# Altium footprint library Liquid Boost.PcbLib: 14 footprints
Each footprint in its own frame and in the unit in brackets; x right, y up, seen from the top. Pads: shape width x height; smd on the part's side, far side on the other; paste and mask are expansions set on the pad; w line width, h text height; cw(c..) or ccw(c..) is an arc to the next point about the centre after c.
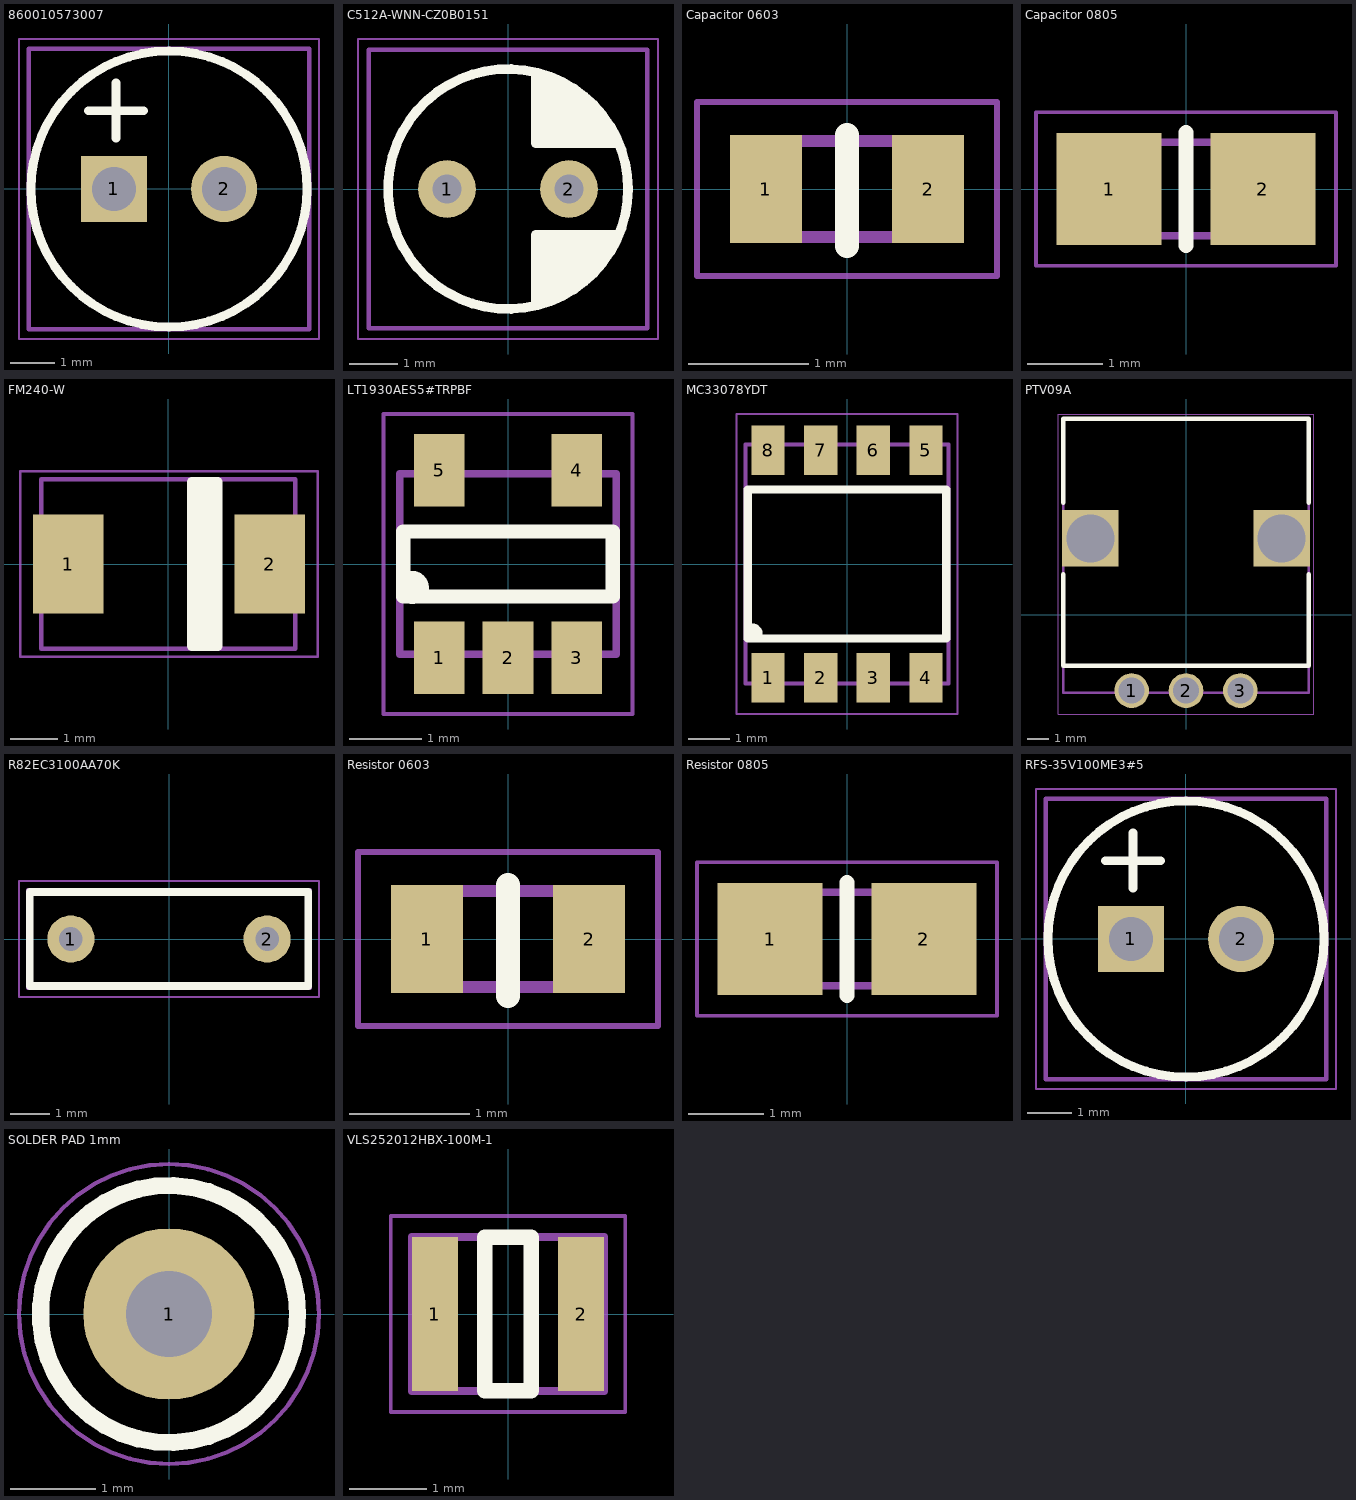
[diagram p0: the footprints below, top view; thin cyan lines are the x and y axes]

## 860010573007 [mm]
pads (2):
  rect 1.5x1.5 hole 1: 1(-1.25,0)
  round 1.5 hole 1: 2(1.25,0)
Top Overlay:
  circle w0.2: c0,0 r3.13
  lines w0.2: -1.825,1.775 -0.575,1.775 ; -1.2,1.15 -1.2,2.4
Top Component Outline:
  lines w0.1: -3.175,-3.175 -3.175,3.175 3.175,3.175 3.175,-3.175 -3.175,-3.175
  text "'.Designator'" at -2.975,-2.575 h1.2
Top Keep Off (Mech15):
  lines w0.05: -3.4,-3.4 3.4,-3.4 3.4,3.4 -3.4,3.4 -3.4,-3.4
3D body "User Library-Cap electro 6_3x11x2_5mm.step": height 11.53, standoff -3.01, extent -3.175,-3.175 3.175,3.175

## C512A-WNN-CZ0B0151 [mm]
pads (2):
  round 1.2 hole 0.6: 1(-1.27,0) 2(1.27,0)
Top Overlay:
  circle w0.2: c0,0 r2.5
  lines w0.2: 0.575,-2.4 0.575,-0.95 ; 0.575,-1.996 1.319,-1.996 ; 0.575,-1.905 1.434,-1.905 ; 0.575,-1.473 0.768,-1.28 2.062,-1.28 0.646,-1.28 ; 0.575,-1.445 1.908,-1.445 ; 0.575,1.445 1.908,1.445 ; 0.575,1.473 0.768,1.28 2.062,1.28 0.646,1.28 ; 0.575,1.905 1.434,1.905 ; 0.575,1.996 1.319,1.996 ; 0.575,2.4 0.575,0.95 ; 0.581,-1.802 1.581,-1.802 ; 0.581,1.802 1.581,1.802 ; 0.7,-1.607 1.823,-1.607 ; 0.7,1.607 1.823,1.607 ; 0.764,-1.699 1.764,-1.699 ; 0.764,1.699 1.764,1.699 ; 0.963,-2.223 0.656,-2.223 0.759,-2.12 1.154,-2.12 ; 0.963,2.223 0.656,2.223 0.759,2.12 1.154,2.12 ; 2.165,-1.124 0.749,-1.124 0.575,-0.95 ; 2.165,1.124 0.749,1.124 0.575,0.95 ; 2.275,-0.95 0.575,-0.95 ; 2.275,0.95 0.575,0.95
Top Component Outline:
  lines w0.1: -2.9,-2.9 -2.9,2.9 2.9,2.9 2.9,-2.9 -2.9,-2.9
  text "'.Designator'" at -2.525,1.275 h0.6
Top Keep Off (Mech15):
  lines w0.05: -3.125,-3.125 3.125,-3.125 3.125,3.125 -3.125,3.125 -3.125,-3.125
3D body "User Library-White LED 5mm Straight.step": height 28.5, standoff -7.5, extent -2.9,-2.9 2.9,2.9

## Capacitor 0603 [mm]
pads (2):
  rect 0.6x0.9 smd: 1(-0.675,0) 2(0.675,0)
Top Overlay:
  lines w0.2: 0,-0.475 0,0.45
Top Component Outline:
  lines w0.1: -0.8,-0.4 -0.8,0.4 0.8,0.4 0.8,-0.4 -0.8,-0.4
  text "'.Designator'" at -0.75,-0.25 h0.3
Top Keep Off (Mech15):
  lines w0.05: -1.25,-0.725 1.25,-0.725 1.25,0.725 -1.25,0.725 -1.25,-0.725
3D body "User Library-SMD CAPACITOR.step": height 0.4, standoff -0.4, extent -0.8,-0.4 0.8,0.4

## Capacitor 0805 [mm]
pads (2):
  rect 1.4x1.5 smd: 1(-1.025,0) 2(1.025,0)
Top Overlay:
  lines w0.2: 0,-0.75 0,0.75
Top Component Outline:
  lines w0.1: -1,-0.625 -1,0.625 1,0.625 1,-0.625 -1,-0.625
  text "'.Designator'" at -0.95,-0.475 h0.3
Top Keep Off (Mech15):
  lines w0.05: -2,-1.025 2,-1.025 2,1.025 -2,1.025 -2,-1.025
3D body "User Library-SMD CAPACITOR.step": height 0.6, standoff 0, extent -1,-0.625 1,0.625

## FM240-W [mm]
pads (2):
  rect 1.5x2.1 smd: 1(-2.125,0) 2(2.155,0)
Top Overlay:
  rectangle: 0.5,-1.75 1.05,1.75
  lines w0.2: 0.5,-1.75 0.5,1.75 1.05,1.75 1.05,-1.75 0.5,-1.75
Top Component Outline:
  lines w0.1: -2.7,-1.8 -2.7,1.8 2.7,1.8 2.7,-1.8 -2.7,-1.8
  text "'.Designator'" at -2.5,-1.2 h1.2
Top Keep Off (Mech15):
  lines w0.05: -3.15,-1.975 3.175,-1.975 3.175,1.975 -3.15,1.975 -3.15,-1.975
3D body "User Library-DO-214AA SMB.step": height 2.3, standoff 0, extent -2.7,-1.8 2.7,1.8

## LT1930AES5#TRPBF [mm]
pads (5):
  rect 0.7x1 smd: 1(-0.95,-1.3) 2(0,-1.3) 3(0.95,-1.3) 4(0.95,1.3) 5(-0.95,1.3)
Top Overlay:
  circle w0.254: c-1.325,-0.325 r0.1
  lines w0.2: -1.45,-0.45 -1.45,0.45 1.45,0.45 1.45,-0.45 -1.45,-0.45
Top Component Outline:
  lines w0.1: -1.5,-1.25 1.5,-1.25 1.5,1.25 -1.5,1.25 -1.5,-1.25
  text "'.Designator'" at -1.35,-0.8 h0.9
Top Keep Off (Mech15):
  lines w0.05: -1.725,-2.079 1.725,-2.079 1.725,2.075 ; -1.725,-2.075 -1.725,2.079 1.725,2.079
3D body "CircuitWorks-SOT-23-5.step": height 1.1, standoff 0, extent -1.5,-1.25 1.5,1.25

## MC33078YDT [mm]
pads (8):
  rect 0.8x1.2 smd: 1(-1.905,-2.75) 2(-0.635,-2.75) 3(0.635,-2.75) 4(1.905,-2.75) 5(1.905,2.75) 6(0.635,2.75) 7(-0.635,2.75) 8(-1.905,2.75)
Top Overlay:
  circle w0.254: c-2.271,-1.67 r0.1
  lines w0.2: -2.4,-1.8 -2.4,1.8 2.4,1.8 2.4,-1.8 -2.4,-1.8
Top Component Outline:
  lines w0.1: -2.451,-2.89 2.451,-2.89 2.451,2.89 -2.451,2.89 -2.451,-2.89
  text "'.Designator'" at -2.3,-0.3 h0.9
Top Keep Off (Mech15):
  lines w0.05: -2.675,-3.625 -2.675,3.625 2.675,3.625 2.675,-3.625 -2.675,-3.625
3D body "CircuitWorks-SO-8.step": height 1.45, standoff 0, extent -2.451,-2.889 2.451,2.889

## PTV09A [mm]
pads (5):
  round 1.6 hole 1.2: 1(-2.5,-3.5) 2(0,-3.5) 3(2.5,-3.5)
  rect 2.6x2.6 hole 2.2 square: ""(-4.4,3.5) ""(4.4,3.5)
Top Overlay:
  lines w0.2: -5.65,1.85 -5.65,-2.35 5.65,-2.35 5.65,1.85 ; -5.65,5.15 -5.65,9 5.65,9 5.65,5.15
Top Component Outline:
  lines w0.1: -5.65,-3.6 -5.65,9 5.65,9 5.65,-3.6 -5.65,-3.6
  text "'.Designator'" at -4.5,6.35 h1.2
Top Keep Off (Mech15):
  lines w0.05: -5.875,-4.575 5.875,-4.575 5.875,9.225 -5.875,9.225 -5.875,-4.575
3D body "User Library-PTV09A-4.STEP": height 32.14, standoff -3.13, extent -5.65,-3.6 5.65,9

## R82EC3100AA70K [mm]
pads (2):
  round 1.2 hole 0.6: 1(-2.5,0) 2(2.5,0)
Top Overlay:
  lines w0.2: -3.55,-1.2 3.55,-1.2 3.55,1.2 -3.55,1.2 -3.55,-1.2
Top Component Outline:
  lines w0.1: -3.6,-1.25 3.6,-1.25 3.6,1.25 -3.6,1.25 -3.6,-1.25
  text "'.Designator'" at -2.775,-0.275 h0.6
Top Keep Off (Mech15):
  lines w0.05: -3.825,-1.475 -3.825,1.475 3.825,1.475 3.825,-1.475 -3.825,-1.475
3D body "User Library-B32529-2_5X6_5X7_2.STEP": height 6.5, standoff -3, extent -3.6,-1.25 3.6,1.25

## Resistor 0603 [mm]
pads (2):
  rect 0.6x0.9 smd: 1(-0.675,0) 2(0.675,0)
Top Overlay:
  lines w0.2: 0,-0.475 0,0.45
Top Component Outline:
  lines w0.1: -0.8,-0.4 0.8,-0.4 0.8,0.4 -0.8,0.4 -0.8,-0.4
  text "'.Designator'" at -0.75,-0.25 h0.3
Top Keep Off (Mech15):
  lines w0.05: -1.25,-0.725 -1.25,0.725 1.25,0.725 1.25,-0.725 -1.25,-0.725
3D body "User Library-SMD RESISTOR-1.step": height 0.23, standoff -0.23, extent -0.8,-0.4 0.8,0.4

## Resistor 0805 [mm]
pads (2):
  rect 1.4x1.5 smd: 1(-1.025,0) 2(1.025,0)
Top Overlay:
  lines w0.2: 0,-0.75 0,0.75
Top Component Outline:
  lines w0.1: -1,-0.625 -1,0.625 1,0.625 1,-0.625 -1,-0.625
  text "'.Designator'" at -0.95,-0.475 h0.3
Top Keep Off (Mech15):
  lines w0.05: -2,-1.025 2,-1.025 2,1.025 -2,1.025 -2,-1.025
3D body "User Library-SMD RESISTOR-1.step": height 0.6, standoff 0, extent -1,-0.625 1,0.625

## RFS-35V100ME3#5 [mm]
pads (2):
  rect 1.5x1.5 hole 1: 1(-1.25,0)
  round 1.5 hole 1: 2(1.25,0)
Top Overlay:
  circle w0.2: c0,0 r3.13
  lines w0.2: -1.825,1.775 -0.575,1.775 ; -1.2,1.15 -1.2,2.4
Top Component Outline:
  lines w0.1: -3.175,-3.175 -3.175,3.175 3.175,3.175 3.175,-3.175 -3.175,-3.175
  text "'.Designator'" at -2.975,-2.575 h1.2
Top Keep Off (Mech15):
  lines w0.05: -3.4,-3.4 3.4,-3.4 3.4,3.4 -3.4,3.4 -3.4,-3.4
3D body "User Library-Cap electro 6_3x11x2_5mm.step": height 11.53, standoff -3.01, extent -3.175,-3.175 3.175,3.175

## SOLDER PAD 1mm [mm]
pads (1):
  round 2 hole 1: 1(0,0)
Top Overlay:
  circle w0.2: c0,0 r1.5
Top Keep Off (Mech15):
  circle w0.05: c0,0 r1.75

## VLS252012HBX-100M-1 [mm]
pads (2):
  rect 0.6x2 smd: 1(-0.95,0) 2(0.95,0)
Top Overlay:
  lines w0.2: -0.3,-1 0.3,-1 0.3,1 -0.3,1 -0.3,-1
Top Component Outline:
  lines w0.1: -1.25,-1 1.25,-1 1.25,1 -1.25,1 -1.25,-1
  text "'.Designator'" at -1.15,-0.7 h0.6
Top Keep Off (Mech15):
  lines w0.05: -1.525,-1.275 -1.525,1.275 1.525,1.275 1.525,-1.275 -1.525,-1.275
3D body "ind.step": height 1.19, standoff -0.01, extent -1.25,-1 1.25,1